# Altium footprint library altium_library.PcbLib: 24 footprints (part 2 of 2)
Each footprint in its own frame and in the unit in brackets; x right, y up, seen from the top. Pads: shape width x height; smd on the part's side, far side on the other; paste and mask are expansions set on the pad; w line width, h text height; cw(c..) or ccw(c..) is an arc to the next point about the centre after c.
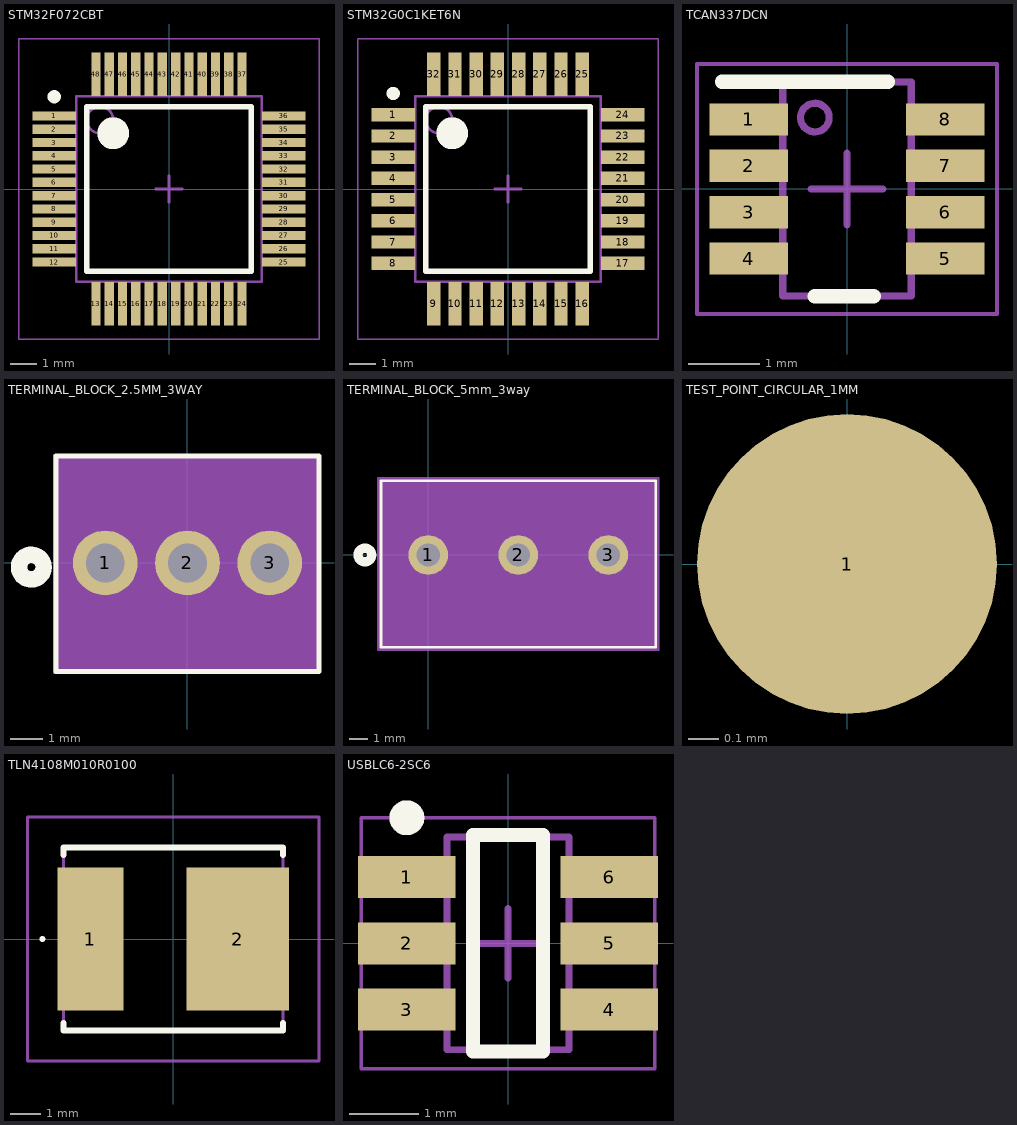
[diagram p1: the footprints below, top view; thin cyan lines are the x and y axes]

## STM32F072CBT [mm] "TSQFP, 48-Leads, Body 7,00x7,00mm, Pitch 0,50mm, IPC Low Density"
height 1.6
pads (48):
  rect 1.65x0.35 smd: 1(-4.325,2.75) 2(-4.325,2.25) 3(-4.325,1.75) 4(-4.325,1.25) 5(-4.325,0.75) 6(-4.325,0.25) 7(-4.325,-0.25) 8(-4.325,-0.75) 9(-4.325,-1.25) 10(-4.325,-1.75) 11(-4.325,-2.25) 12(-4.325,-2.75) 25(4.325,-2.75) 26(4.325,-2.25) 27(4.325,-1.75) 28(4.325,-1.25) 29(4.325,-0.75) 30(4.325,-0.25) 31(4.325,0.25) 32(4.325,0.75) 33(4.325,1.25) 34(4.325,1.75) 35(4.325,2.25) 36(4.325,2.75)
  rect 0.35x1.65 smd: 13(-2.75,-4.325) 14(-2.25,-4.325) 15(-1.75,-4.325) 16(-1.25,-4.325) 17(-0.75,-4.325) 18(-0.25,-4.325) 19(0.25,-4.325) 20(0.75,-4.325) 21(1.25,-4.325) 22(1.75,-4.325) 23(2.25,-4.325) 24(2.75,-4.325) 37(2.75,4.325) 38(2.25,4.325) 39(1.75,4.325) 40(1.25,4.325) 41(0.75,4.325) 42(0.25,4.325) 43(-0.25,4.325) 44(-0.75,4.325) 45(-1.25,4.325) 46(-1.75,4.325) 47(-2.25,4.325) 48(-2.75,4.325)
Top Overlay:
  circle w0.6: c-2.1,2.1 r0.3
  circle w0.25: c-4.325,3.475 r0.125
  lines w0.2: -3.1,-3.1 3.1,-3.1 3.1,3.1 -3.1,3.1 -3.1,-3.1
Mechanical 13:
  circle w0.1: c-2.6,2.6 r0.5
  lines w0.1: -3.5,-3.5 3.5,-3.5 3.5,3.5 -3.5,3.5 -3.5,-3.5
Mechanical 15:
  lines w0.05: -5.65,-5.65 5.65,-5.65 5.65,5.65 -5.65,5.65 -5.65,-5.65
  lines w0.1: -0.5,0 0.5,0 ; 0,-0.5 0,0.5
3D body "TSQFP50P900X900X160-48M.step": height 1.6, standoff 0, extent -4.5,-4.5 4.5,4.5

## STM32G0C1KET6N [mm] "TQFP, 32-Leads, Body 7,00x7,00mm, Pitch 0,80mm, IPC Low Density"
height 1.6
pads (32):
  rect 1.65x0.5 smd: 1(-4.325,2.8) 2(-4.325,2) 3(-4.325,1.2) 4(-4.325,0.4) 5(-4.325,-0.4) 6(-4.325,-1.2) 7(-4.325,-2) 8(-4.325,-2.8) 17(4.325,-2.8) 18(4.325,-2) 19(4.325,-1.2) 20(4.325,-0.4) 21(4.325,0.4) 22(4.325,1.2) 23(4.325,2) 24(4.325,2.8)
  rect 0.5x1.65 smd: 9(-2.8,-4.325) 10(-2,-4.325) 11(-1.2,-4.325) 12(-0.4,-4.325) 13(0.4,-4.325) 14(1.2,-4.325) 15(2,-4.325) 16(2.8,-4.325) 25(2.8,4.325) 26(2,4.325) 27(1.2,4.325) 28(0.4,4.325) 29(-0.4,4.325) 30(-1.2,4.325) 31(-2,4.325) 32(-2.8,4.325)
Top Overlay:
  circle w0.6: c-2.1,2.1 r0.3
  circle w0.25: c-4.325,3.6 r0.125
  lines w0.2: -3.1,-3.1 3.1,-3.1 3.1,3.1 -3.1,3.1 -3.1,-3.1
Mechanical 13:
  circle w0.1: c-2.6,2.6 r0.5
  lines w0.1: -3.5,-3.5 3.5,-3.5 3.5,3.5 -3.5,3.5 -3.5,-3.5
Mechanical 15:
  lines w0.05: -5.65,-5.65 5.65,-5.65 5.65,5.65 -5.65,5.65 -5.65,-5.65
  lines w0.1: -0.5,0 0.5,0 ; 0,-0.5 0,0.5
3D body "STM32G0C1KET6N.step": height 1.6, standoff 0, extent -4.5,-4.5 4.5,4.5

## TCAN337DCN [mm]
pads (8):
  rect 1.1x0.45 smd paste+0 mask+0.051: 1(-1.375,0.975) 2(-1.375,0.325) 3(-1.375,-0.325) 4(-1.375,-0.975) 5(1.375,-0.975) 6(1.375,-0.325) 7(1.375,0.325) 8(1.375,0.975)
Top Overlay:
  lines w0.2: -1.75,1.5 0.575,1.5 ; -0.45,-1.5 0.375,-1.5
Mechanical 13:
  circle w0.1: c-0.45,1 r0.2
  lines w0.1: -0.9,-1.5 -0.9,1.5 0.9,1.5 0.9,-1.5 -0.9,-1.5
Mechanical 15:
  lines w0.05: -2.1,-1.75 2.1,-1.75 2.1,1.75 -2.1,1.75 -2.1,-1.75
  lines w0.1: -0.5,0 0.5,0 ; 0,-0.5 0,0.5
3D body "User Library-TSOT-23-8.STEP": height 1, standoff 0, extent -1.4,-1.45 1.4,1.45

## TERMINAL_BLOCK_2.5MM_3WAY [mm] "Terminal block 2.5mm 3way"
pads (3):
  round 2 hole 1.2: 1(-2.54,0) 2(0,0) 3(2.54,0)
Top Overlay:
  circle w0.508: c-4.826,-0.127 r0.381
  lines w0.152: -4.064,-3.349 4.064,-3.349 4.064,3.302 -4.064,3.302 -4.064,-3.349
Mechanical 15:
  region: 4.064,3.365 -4.151,3.365 -4.151,-3.429 4.064,-3.429
3D body "2396254_282834-3.stp": height 10, standoff -3.4, extent -4.04,-3.25 4.04,3.25

## TERMINAL_BLOCK_5mm_3way [mm] "Terminal block 5mm 3way"
pads (3):
  round 2.2 hole 1.3: 1(0,0) 2(5,0) 3(10,0)
Top Overlay:
  circle w0.508: c-3.516,0 r0.381
  lines w0.152: -2.627,-5.127 -2.627,4.127 12.627,4.127 12.627,-5.127 -2.627,-5.127
Bottom Overlay:
  circle w0.508: c-3.516,0 r0.381
Mechanical 13:
  circle w0.508: c0,1.905 r0.381
  lines w0.025: -2.5,-5 -2.5,4 12.5,4 12.5,-5 -2.5,-5
Mechanical 15:
  region: 12.754,4.254 -2.754,4.254 -2.754,-5.254 12.754,-5.254
  lines w0.152: -2.754,-5.254 12.754,-5.254 12.754,4.254 -2.754,4.254 -2.754,-5.254
3D body "1715721.stp": height 14.2, standoff -3.5, extent -2.601,-5.264 8.3,4.536
3D body "1715721.stp": height 14.2, standoff -3.5, extent 2.399,-5.264 13.3,4.536

## TEST_POINT_CIRCULAR_1MM [mm] "simple PCB test point, circular, 1mm diameter"
pads (1):
  round 1 smd paste+0 mask+0: 1(0,0)

## TLN4108M010R0100 [mm] "Tantalum Capacitor, Solid SMD, 10V, 1000uF, 20%, ESR=100 mOhm"
pads (2):
  rect 2.2x4.75 smd: 1(-2.75,0)
  rect 3.4x4.75 smd: 2(2.15,0)
Top Overlay:
  lines w0.1: -4.4,0 cw(c-4.35,0) -4.3,0 cw(c-4.35,0) -4.4,0
  lines w0.2: -3.65,-2.8 -3.65,-3.05 3.65,-3.05 3.65,-2.8 ; -3.65,2.8 -3.65,3.05 3.65,3.05 3.65,2.8
Mechanical 15:
  lines w0.1: -3.65,-3.05 -3.65,3.05 3.65,3.05 3.65,-3.05 -3.65,-3.05
Mechanical 20:
  lines w0.1: -4.85,-4.05 -4.85,4.05 4.85,4.05 4.85,-4.05 -4.85,-4.05

## USBLC6-2SC6 [mm] "SOT23, 6-Leads, Body 2,93x2,80mm, Pitch 0,95mm, IPC Medium Density"
height 1.45
pads (6):
  rect 1.4x0.6 smd: 1(-1.45,0.95) 2(-1.45,0) 3(-1.45,-0.95) 4(1.45,-0.95) 5(1.45,0) 6(1.45,0.95)
Top Overlay:
  circle w0.25: c-1.45,1.8 r0.125
  lines w0.2: -0.5,-1.55 -0.5,1.55 0.5,1.55 0.5,-1.55 -0.5,-1.55
Mechanical 13:
  lines w0.1: -0.875,-1.525 0.875,-1.525 0.875,1.525 -0.875,1.525 -0.875,-1.525
Mechanical 15:
  lines w0.05: -2.1,-1.8 2.1,-1.8 2.1,1.8 -2.1,1.8 -2.1,-1.8
  lines w0.1: -0.5,0 0.5,0 ; 0,-0.5 0,0.5
3D body "SOT95P280X145-6N.step": height 1.45, standoff 0, extent -1.5,-1.525 1.5,1.525